# Altium footprint library bms_slave1.PcbLib: 26 footprints (part 1 of 2)
Each footprint in its own frame and in the unit in brackets; x right, y up, seen from the top. Pads: shape width x height; smd on the part's side, far side on the other; paste and mask are expansions set on the pad; w line width, h text height; cw(c..) or ccw(c..) is an arc to the next point about the centre after c.
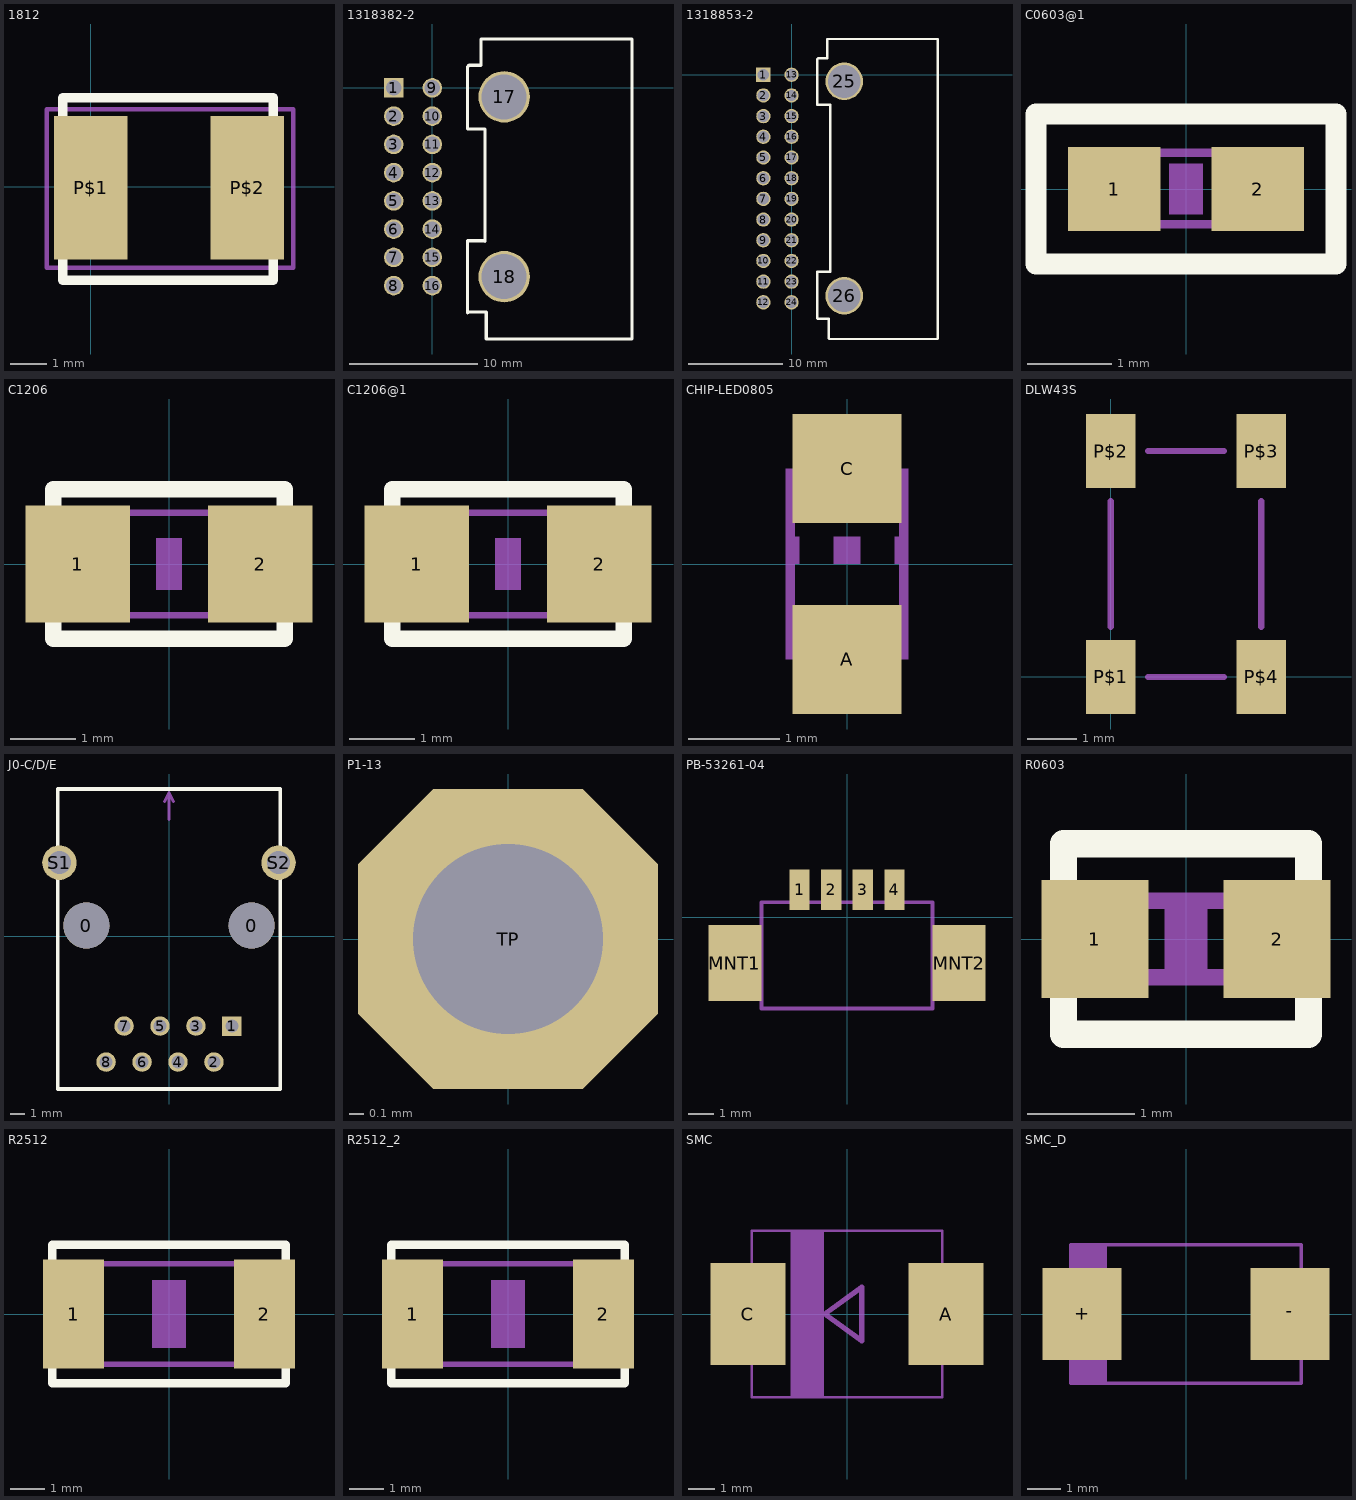
[diagram p0: the footprints below, top view; thin cyan lines are the x and y axes]

## 1812 [mm] "1812"
pads (2):
  rect 2x3.9 smd: P$1(0,-0.03) P$2(4.25,-0.03)
Top Overlay:
  lines w0.254: -0.762,-2.54 4.953,-2.54 4.953,2.413 -0.762,2.413 -0.762,-1.524 -0.762,-2.286 -0.762,-2.54
Mechanical 2:
  lines w0.127: -1.2,-2.2 -1.2,2.1 -1.1,2.1 -1,2.1 5.5,2.1 5.5,-2.2 -1.2,-2.2

## 1318382-2 [mm]
height 15.5
pads (18):
  rect 1.524x1.524 hole 1.2: 1(-3,0)
  round 1.524 hole 1.2: 2(-3,-2.2) 3(-3,-4.4) 4(-3,-6.6) 5(-3,-8.8) 6(-3,-11) 7(-3,-13.2) 8(-3,-15.4) 9(0,0) 10(0,-2.2) 11(0,-4.4) 12(0,-6.6) 13(0,-8.8) 14(0,-11) 15(0,-13.2) 16(0,-15.4)
  round 4 hole 3.5: 17(5.6,-0.7) 18(5.6,-14.7)
Top Overlay:
  lines w0.254: 4.1,-3.4 4.1,-3.2 2.75,-3.2 2.75,1.65 2.85,1.75 3.8,1.75 3.8,3.8 15.55,3.8 15.55,0.65 15.55,-18.75 15.55,-19.55 4.2,-19.55 4.2,-17.45 2.8,-17.45 2.75,-17.5 2.75,-11.9 4.05,-11.9 4.1,-11.95 4.1,-3.3
3D body: height 15.5, standoff 0, extent 2.749,-19.551 15.551,3.801

## 1318853-2 [mm]
height 15.5
pads (26):
  rect 1.524x1.524 hole 1.2: 1(-3,0)
  round 1.524 hole 1.2: 2(-3,-2.2) 3(-3,-4.4) 4(-3,-6.6) 5(-3,-8.8) 6(-3,-11) 7(-3,-13.2) 8(-3,-15.4) 9(-3,-17.6) 10(-3,-19.8) 11(-3,-22) 12(-3,-24.2) 13(0,0) 14(0,-2.2) 15(0,-4.4) 16(0,-6.6) 17(0,-8.8) 18(0,-11) 19(0,-13.2) 20(0,-15.4) 21(0,-17.6) 22(0,-19.8) 23(0,-22) 24(0,-24.2)
  round 4 hole 3.5: 25(5.6,-0.7) 26(5.6,-23.5)
Top Overlay:
  lines w0.254: 2.75,-25.9 2.8,-25.95 3.95,-25.95 3.95,-28.05 4,-28.1 15.5,-28.1 15.55,-28.05 15.55,-26.85 15.55,0.65 15.55,3.8 3.8,3.8 3.8,1.75 2.85,1.75 2.75,1.65 2.75,-3.2 4.1,-3.2 4.1,-3.4 4.1,-20.95 2.75,-20.95 2.75,-25.9
3D body: height 15.5, standoff 0, extent 2.749,-28.101 15.551,3.801

## C0603@1 [mm] "C0603@1"
pads (2):
  rect 1.1x1 smd: 1(-0.85,0) 2(0.85,0)
Top Overlay:
  lines w0.254: -1.778,-0.889 -1.778,0.381 -1.778,0.889 -1.397,0.889 1.778,0.889 1.778,-0.889 -1.778,-0.889
Mechanical 8:
  rectangle: -0.2,-0.3 0.2,0.3
Mechanical 16:
  rectangle: -0.838,-0.47 -0.338,0.48
  rectangle: 0.33,-0.47 0.83,0.48
  lines w0.102: -0.356,-0.419 0.356,-0.419 ; -0.356,0.432 0.356,0.432

## C1206 [mil] "C1206"
pads (2):
  rect 62.99x70.87 smd: 1(-55.12,0) 2(55.12,0)
Top Overlay:
  lines w10: -70,-45 70,-45 70,45 -70,45 -70,-45
Mechanical 8:
  rectangle: -7.87,-15.75 7.87,15.75
Mechanical 16:
  rectangle: -67,-33.5 -37.47,33.43
  rectangle: 37.47,-33.43 67,33.5
  lines w4: -37.99,-30.98 37.99,-30.98 ; -37.99,30.98 37.99,30.98

## C1206@1 [mil] "C1206@1"
pads (2):
  rect 62.99x70.87 smd: 1(-55.12,0) 2(55.12,0)
Top Overlay:
  lines w10: -70,-45 -70,45 70,45 70,-45 -50,-45 -70,-45
Mechanical 8:
  rectangle: -7.87,-15.75 7.87,15.75
Mechanical 16:
  rectangle: 37.47,-33.43 67,33.5
  rectangle: -67,-33.5 -37.47,33.43
  lines w4: -37.99,-30.98 37.99,-30.98 ; -37.99,30.98 37.99,30.98

## CHIP-LED0805 [mil] "CHIP-LED0805"
pads (2):
  rect 47.24x47.24 smd: A(0,-41.34) C(0,41.34)
Mechanical 2:
  rectangle: -5.91,0 5.91,11.81
  rectangle: 20.67,0 26.57,11.81
  rectangle: -26.57,0 -20.67,11.81
Mechanical 16:
  rectangle: -26.57,-41.34 26.57,-17.72
  rectangle: -26.57,17.72 26.57,41.34
  lines w4: -24.61,-17.72 -24.61,17.72 ; 24.61,-18.7 24.61,17.72

## DLW43S [mil] "DLW43S"
pads (4):
  rect 39.37x59.06 smd: P$1(0,0) P$2(0,180) P$3(120,180) P$4(120,0)
Mechanical 2:
  lines w5: 0,40 0,140 ; 30,0 90,0 ; 30,180 90,180 ; 120,40 120,140

## J0-C/D/E [mil] "J0-C/D/E"
pads (12):
  round 128 hole 128: 0(-230,30) 0(230,30)
  rect 54x54 hole 36: 1(175,-250)
  round 54 hole 36: 2(125,-350) 3(75,-250) 4(25,-350) 5(-25,-250) 6(-75,-350) 7(-125,-250) 8(-175,-350)
  round 96 hole 64: S1(-305,205) S2(305,205)
Top Overlay:
  lines w10: -310,-425 310,-425 310,410 -310,410 -310,-425
Mechanical 16:
  lines w8: -12.5,375 0,400 ; 0,325 0,400 ; 12.5,375 0,400
Mechanical 18:
  text "1" at 211.69,-193.12 h49.6
  text "3" at 120.77,-193.65 h49.6
  text "5" at 21.02,-194.19 h49.6
  text "7" at -79.47,-193.65 h49.6
  text "8" at -129.1,-293.65 h49.6
  text "6" at -29.02,-293.65 h49.6
  text "4" at 71.97,-293.24 h49.6
  text "2" at 171.1,-293.12 h49.6
  text "FRONT" at 85.68,294.26 h49.6

## P1-13 [mil] "P1-13"
pads (1):
  oct 82.3x82.3 hole 52: TP(0,0)
Mechanical 16:
  circle w6: c0,0 r30
  rectangle: -13,-13 13,13

## PB-53261-04 [mil] "PB-53261-04"
pads (6):
  rect 31.5x62.99 smd: 1(-73.82,43.31) 2(-24.61,43.31) 3(24.61,43.31) 4(73.82,43.31)
  rect 82.68x118.11 smd: MNT1(-174.21,-70.87) MNT2(174.21,-70.87)
Mechanical 2:
  lines w6: -132.87,-136.81 -132.87,-141.73 132.87,-141.73 132.87,-136.81 ; -132.87,-4.92 -132.87,23.62 -96.46,23.62 ; -51.18,23.62 -47.24,23.62 ; -1.97,23.62 1.97,23.62 ; 47.24,23.62 51.18,23.62 ; 96.46,23.62 132.87,23.62 132.87,-4.92
Mechanical 16:
  rectangle: -30.91,23.62 -18.31,62.99
  rectangle: -80.12,23.62 -67.52,62.99
  rectangle: 18.31,23.62 30.91,62.99
  rectangle: 67.52,23.62 80.12,62.99
  lines w6: -132.87,-125.98 -132.87,-15.75 ; -132.87,-125.98 -132.87,-141.73 132.87,-141.73 132.87,-125.98 ; -132.87,-125.98 -199.8,-125.98 -199.8,-15.75 -132.87,-15.75 ; -132.87,-15.75 -132.87,23.62 132.87,23.62 132.87,-15.75 ; 132.87,-125.98 132.87,-15.75 ; 132.87,-125.98 199.8,-125.98 199.8,-15.75 132.87,-15.75

## R0603 [mm] "R0603"
pads (2):
  rect 1x1.1 smd: 1(-0.85,0) 2(0.85,0)
Top Overlay:
  lines w0.254: -1.143,-0.889 -1.143,0.889 1.143,0.889 1.143,-0.889 -1.143,-0.889
Mechanical 8:
  rectangle: -0.2,-0.4 0.2,0.4
Mechanical 16:
  rectangle: 0.432,-0.432 0.838,0.432
  rectangle: -0.838,-0.432 -0.432,0.432
  lines w0.152: -0.432,-0.356 0.432,-0.356 ; -0.432,0.356 0.432,0.356

## R2512 [mil] "R2512"
pads (2):
  rect 70.87x125.98 smd: 1(-110.24,0) 2(110.24,0)
Top Overlay:
  lines w10: -135,-80 -135,80 135,80 135,-80 -135,-80
Mechanical 8:
  rectangle: -19.69,-39.37 19.69,39.37
Mechanical 16:
  rectangle: 93,-61 126.46,61.05
  rectangle: -126,-61 -92.54,61.05
  lines w6: -92.99,-57.99 93.98,-57.99 ; -92.99,57.99 93.98,57.99

## R2512_2 [mil]
pads (2):
  rect 70.87x125.98 smd: 1(-110.24,0) 2(110.24,0)
Top Overlay:
  lines w10: -135,-80 -135,80 135,80 135,-80 -135,-80
Mechanical 8:
  rectangle: -19.69,-39.37 19.69,39.37
Mechanical 16:
  rectangle: 93,-61 126.46,61.05
  rectangle: -126,-61 -92.54,61.05
  lines w6: -92.99,-57.99 93.98,-57.99 ; -92.99,57.99 93.98,57.99

## SMC [mm] "SMC"
pads (2):
  rect 2.8x3.8 smd: A(3.7,0) C(-3.7,0)
Mechanical 2:
  rectangle: -2.1,-3.1 -0.85,3.1
  lines w0.102: -3.561,-3.105 3.561,-3.105 ; -3.561,3.105 3.561,3.105
  lines w0.203: -0.83,0 0.543,1 0.543,-1 -0.83,0
Mechanical 16:
  rectangle: -4.094,-1.092 -3.561,1.092
  rectangle: 3.561,-1.092 4.094,1.092
  lines w0.102: -3.561,-3.105 -3.561,3.105 ; 3.561,-3.105 3.561,3.105

## SMC_D [mil] "SMC_D"
pads (2):
  rect 94.49x110.24 smd: +(-124.02,0) -(124.02,0)
Mechanical 16:
  rectangle: -143.7,-47.24 -135.83,47.24
  region: 143.7,47.24 135.83,47.24 135.83,-47.24 143.7,-47.24
  rectangle: -137.8,-82.68 -94.49,82.68
  lines w4: -137.8,-82.68 137.8,-82.68 137.8,82.68 -137.8,82.68 -137.8,-82.68